# Altium integrated library LOGIC-74HC595N_DIP16_.IntLib: 1 symbol
Pins are listed as number, name and electrical type; pins without a type are passive.

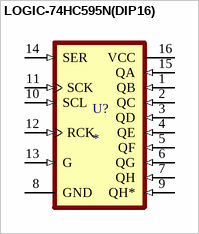
[diagram p0: symbol LOGIC-74HC595N(DIP16)]

## LOGIC-74HC595N(DIP16)
designator U?
Shift Shift Register 1 Element 8 Bit 16-PDIP; MP: 74HC595N; MF: Texas Instruments; Check_prices: https://www.snapeda.com/parts/74HC595N/Texas+Instruments/view-part/?ref=eda; Value: *; Availability: In Stock; Price: None; Package: SOT38-4-16 Nexperia; SnapEDA_Link: https://www.snapeda.com/parts/74HC595N/Texas+Instruments/view-part/?ref=snap; Purchase-URL: https://pricing.snapeda.com/search/part/74HC595N/?ref=eda
footprint DIP16-2.54-20.32X5.84MM
pins: 1 QB (in), 2 QC (in), 3 QD (in), 4 QE (in), 5 QF (in), 6 QG (in), 7 QH (in), 8 GND (power), 9 QH* (in), 10 SCL (in), 11 SCK (in), 12 RCK (in), 13 G (in), 14 SER (in), 15 QA (in), 16 VCC (power)